# Altium footprint library MSS1210333MEB.PcbLib: 1 footprints
Each footprint in its own frame and in the unit in brackets; x right, y up, seen from the top. Pads: shape width x height; smd on the part's side, far side on the other; paste and mask are expansions set on the pad; w line width, h text height; cw(c..) or ccw(c..) is an arc to the next point about the centre after c.
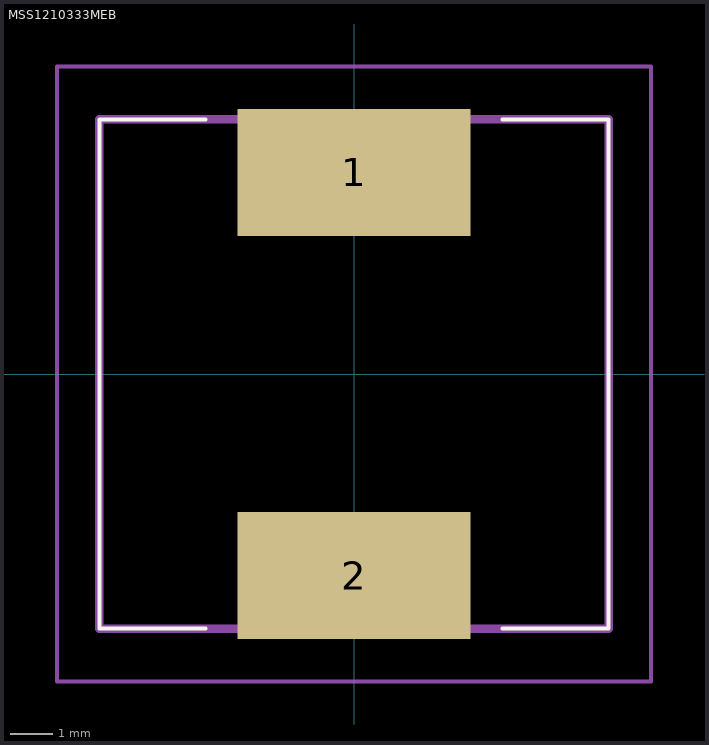
[diagram p0: the footprint, top view; thin cyan lines are the x and y axes]

## MSS1210333MEB [mm]
pads (2):
  rect 5.5x3 smd: 1(0,4.75) 2(0,-4.75)
Top Overlay:
  lines w0.1: -3.5,-6 -6,-6 -6,6 -3.5,6 ; 3.5,-6 6,-6 6,6 3.5,6
Mechanical 15:
  lines w0.2: -6,-6 6,-6 6,6 -6,6 -6,-6
Mechanical 20:
  lines w0.1: -7,-7.25 7,-7.25 ; -7,-7.25 -7,7.25 ; -7,-7.25 7,-7.25 ; -7,-7.25 -7,7.25 ; -7,7.25 7,7.25 ; -7,7.25 7,7.25 ; 7,-7.25 7,7.25 ; 7,-7.25 7,7.25